# EAGLE library part A3966S (library allegro-micro)
PWM MOTOR DRIVER Dual Full-Bridge PWM Motor Driver
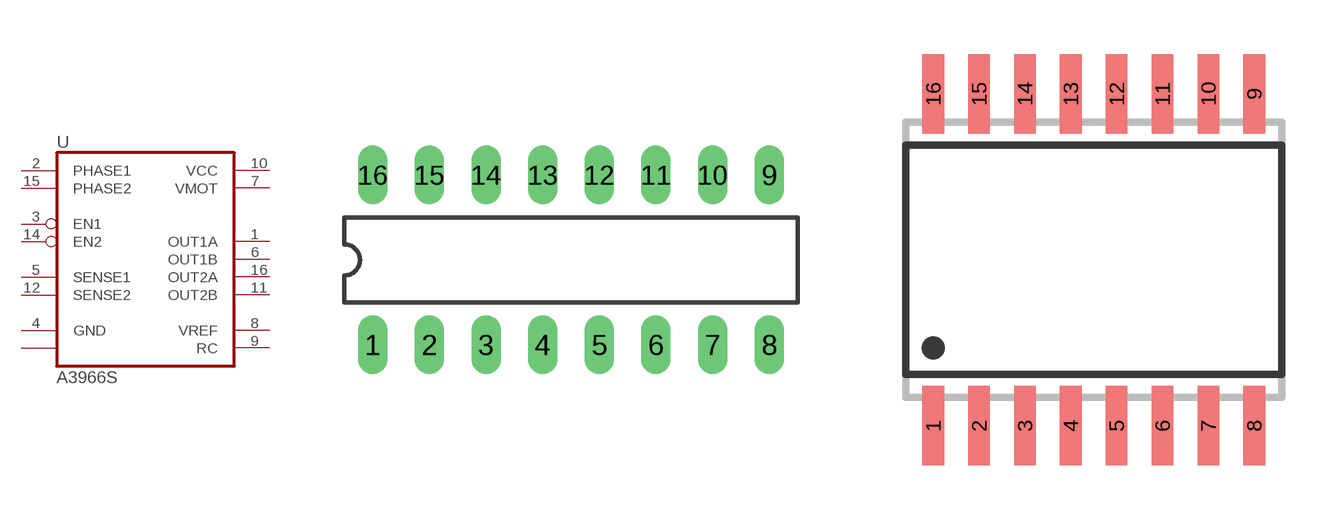
[diagram p0: symbol with the pads of DIL16; footprints DIL16, SO16W]

Designator prefix U

## A3966SA  [DIL16]
1  OUT1A  out
2  PHASE1  in
3  EN1  in
4  GND  pwr
5  SENSE1  out
6  OUT1B  out
7  VMOT  pwr
8  VREF
9  RC
10  VCC  pwr
11  OUT2B  out
12  SENSE2  out
13  GND1  pwr
14  EN2  in
15  PHASE2  in
16  OUT2A  out

## A3966SLB  [SO16W]
Pads as for DIL16

## Footprint DIL16 (pad centres in mm)
Dual In Line Package
drill 0.813 long: 1 -8.89,-3.81; 2 -6.35,-3.81; 3 -3.81,-3.81; 4 -1.27,-3.81; 5 1.27,-3.81; 6 3.81,-3.81; 7 6.35,-3.81; 8 8.89,-3.81; 9 8.89,3.81; 10 6.35,3.81; 11 3.81,3.81; 12 1.27,3.81; 13 -1.27,3.81; 14 -3.81,3.81; 15 -6.35,3.81; 16 -8.89,3.81

## Footprint SO16W (pad centres in mm)
SMALL OUTLINE INTEGRATED CIRCUIT wide body 7.5 mm/JEDEC MS-013AA
smd 0.6 x 2.2: 1 -4.445,-4.6; 2 -3.175,-4.6; 3 -1.905,-4.6; 4 -0.635,-4.6; 5 0.635,-4.6; 6 1.905,-4.6; 7 3.175,-4.6; 8 4.445,-4.6; 9 4.445,4.6; 10 3.175,4.6; 11 1.905,4.6; 12 0.635,4.6; 13 -0.635,4.6; 14 -1.905,4.6; 15 -3.175,4.6; 16 -4.445,4.6